# Altium footprint library solder_jumper.PcbLib: 1 footprints
Each footprint in its own frame and in the unit in brackets; x right, y up, seen from the top. Pads: shape width x height; smd on the part's side, far side on the other; paste and mask are expansions set on the pad; w line width, h text height; cw(c..) or ccw(c..) is an arc to the next point about the centre after c.
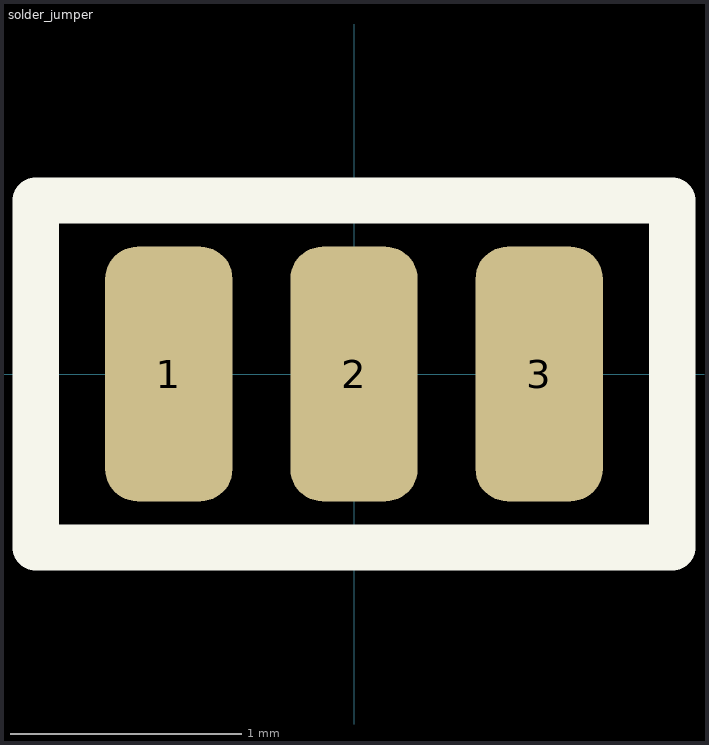
[diagram p0: the footprint, top view; thin cyan lines are the x and y axes]

## solder_jumper [mm]
height 1.4
pads (3):
  rrect50% 0.55x1.1 smd: 1(-0.8,0) 2(0,0) 3(0.8,0)
Top Overlay:
  lines w0.2: -1.375,-0.75 1.375,-0.75 1.375,0.75 -1.25,0.75 -1.375,0.75 -1.375,0.35 -1.375,-0.75